# Altium integrated library TI Data Converters Digital to Analog Converter.IntLib: 1533 symbols (part 97 of 99)
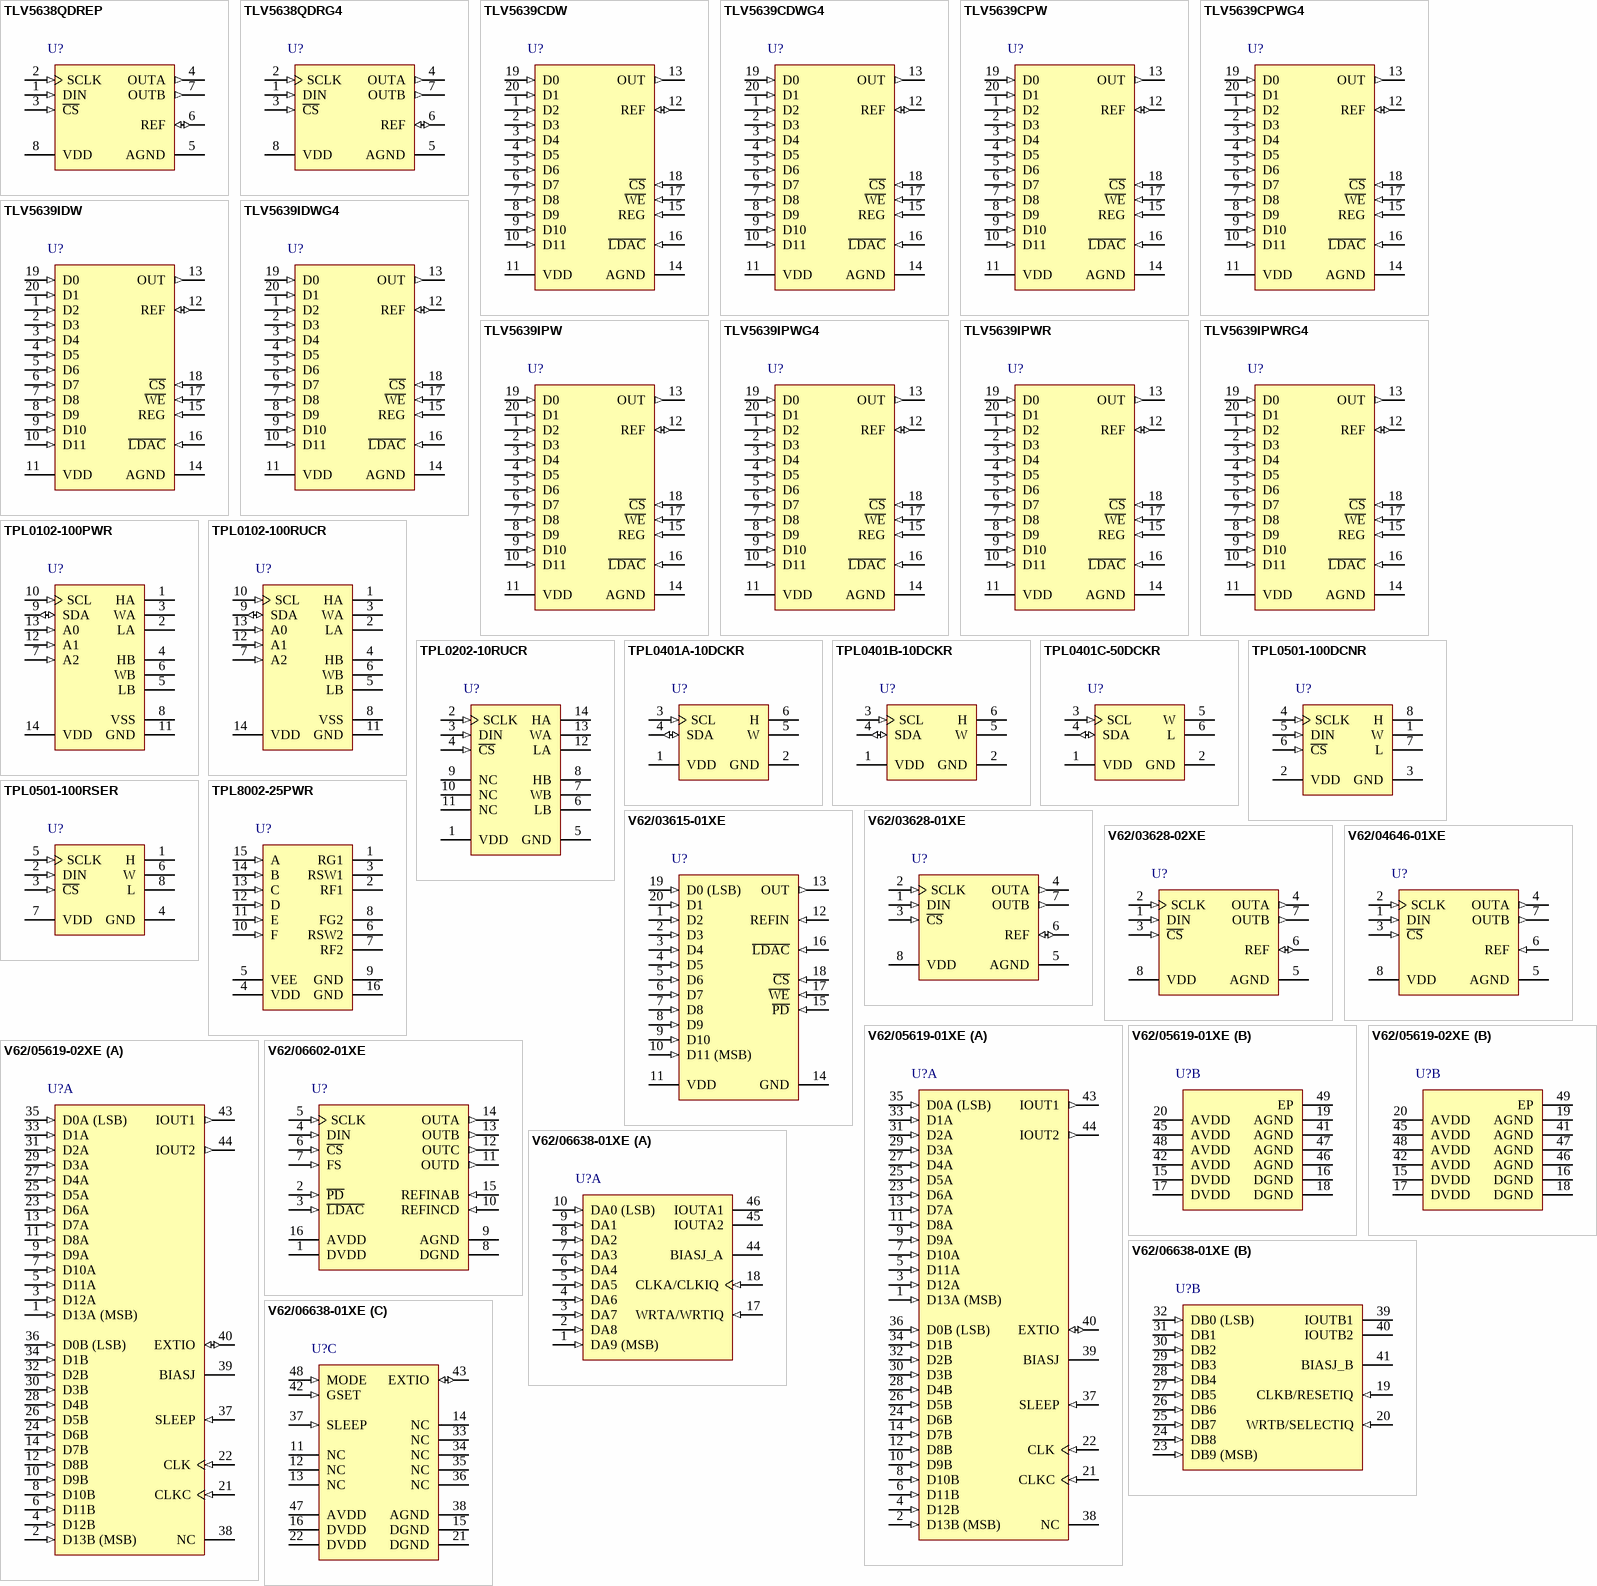
[diagram p169: symbols TLV5638QDREP to V62/06638-01XE]

## TPL0102-100RUCR
designator U?
256 Tap Dual Channel Digital Potentiometer with I2C Interface and Non-Volatile Memory, -40 to 85 degC, 14-pin QFN (RUC14), Green (RoHS & no Sb/Br); Manufacturer: Texas Instruments; PartNumber: TPL0102-100RUCR; DAC Channels: 2; DNL(Max)(+/-LSB): 0.25; INL(Max)(+/-LSB): 0.5; DatasheetVersion: SLIS134B; PackageVersion: 4208447/C, 08/2008; PackageReference: RUC14; PackageDescription: 14-Pin Plastic Quad Flatpack No-Lead, Body 2 x 2 mm, Pitch 0.4 mm; Supplier 1: Digi-Key; Supplier Part Number 1: 296-28379-2-ND; Supplier 2: Digi-Key; Supplier Part Number 2: 296-28379-1-ND; Supplier 3: Digi-Key; Supplier Part Number 3: 296-28379-6-ND; Supplier 4: Farnell; Supplier Part Number 4: 1895372; Supplier 5: Newark; Supplier Part Number 5: 47T5679; Supplier 6: Mouser; Supplier Part Number 6: 595-TPL0102-100RUCR; Eco-Plan: Green (RoHS & no Sb/Br); Interface: I2C; SubFamily: Digital Potentiometer; Mounting Technology: Surface Mount; Code_JEDEC: MO-288; ComponentLink1Description: Manufacturer URL; ComponentLink1URL: http://www.ti.com/; ComponentLink2Description: Datasheet; ComponentLink2URL: http://www.ti.com/general/docs/lit/getliterature.tsp?genericPartNumber=TPL0102-100&fileType=pdf; ComponentLink3Description: Package Specification; ComponentLink3URL: http://www.ti.com/lit/ml/mpqf212b/mpqf212b.pdf
footprint TI-RUC14_V (QFN, 14-Leads, Body 2x2mm, Pitch 0.4mm)
pins: 1 HA "High terminal of Potentiometer A", 2 LA "Low terminal of Potentiometer A", 3 WA "Wiper terminal of Potentiometer A", 4 HB "High terminal of Potentiometer B", 5 LB "Low terminal of Potentiometer B", 6 WB "Wiper terminal of Potentiometer B", 7 A2 (in) "Address Bit 2", 8 VSS (power) "Negative or GND Power Supply Pin", 9 SDA (io) "I2C Data I/O", 10 SCL (in) "I2C Clock Input", 11 GND (power) "Ground", 12 A1 (in) "Address Bit 1", 13 A0 (in) "Address Bit 0", 14 VDD (power) "Positive Power Supply Pin"

## TPL0202-10RUCR
designator U?
256 Tap, Dual Channel Digital Potentiometer with SPI Interface and Non-Volatile Memory, -40 to 85 degC, 14-pin QFN (RUC14); Manufacturer: Texas Instruments; PartNumber: TPL0202-10RUCR; DAC Channels: 2; DNL(Max)(+/-LSB): 0.5; INL(Max)(+/-LSB): 1; DatasheetVersion: SLIS135C; PackageVersion: 4208447/C, 08/2008; PackageReference: RUC14; PackageDescription: 14-Pin Plastic Quad Flatpack No-Lead, Body 2 x 2 mm, Pitch 0.4 mm; Supplier 1: Mouser; Supplier Part Number 1: N/A; Interface: SPI; SubFamily: Digital Potentiometer; Mounting Technology: Surface Mount; Code_JEDEC: MO-288; ComponentLink1Description: Manufacturer URL; ComponentLink1URL: http://www.ti.com/; ComponentLink2Description: Datasheet; ComponentLink2URL: http://www.ti.com/general/docs/lit/getliterature.tsp?genericPartNumber=TPL0202-10&fileType=pdf; ComponentLink3Description: Package Specification; ComponentLink3URL: http://www.ti.com/lit/ml/mpqf212b/mpqf212b.pdf
footprint TI-RUC14_V (QFN, 14-Leads, Body 2x2mm, Pitch 0.4mm)
pins: 1 VDD (power) "Supply Voltage", 2 SCLK (in) "SPI Clock", 3 DIN (in) "SPI Input", 4 ~{CS} (in) "SPI Chip Select (Active Low)", 5 GND (power) "Ground", 6 LB "Low terminal of Potentiometer B", 7 WB "Wiper terminal of Potentiometer B", 8 HB "High terminal of Potentiometer B", 9 NC "Not internally connected", 10 NC "Not internally connected", 11 NC "Not internally connected", 12 LA "Low terminal of Potentiometer A", 13 WA "Wiper terminal of Potentiometer A", 14 HA "High terminal of Potentiometer A"

## TPL0401A-10DCKR
designator U?
128 Tap Digital Potentiometer with I2C Interface, -40 to 125 degC, 6-pin SOT23 (DCK6), Green (RoHS & no Sb/Br); Manufacturer: Texas Instruments; PartNumber: TPL0401A-10DCKR; DNL(Max)(+/-LSB): 0.25; INL(Max)(+/-LSB): 0.5; Settling Time(us): 0.152; DatasheetVersion: SLIS144A; PackageVersion: 4093553-4/G, 01/2007; PackageReference: DCK6; PackageDescription: 6-Pin Plastic Small Outline, Body 2 x 1.25 mm, Pitch 0.65 mm; Supplier 1: Digi-Key; Supplier Part Number 1: 296-29676-2-ND; Supplier 2: Digi-Key; Supplier Part Number 2: 296-29676-1-ND; Supplier 3: Digi-Key; Supplier Part Number 3: 296-29676-6-ND; Supplier 4: Farnell; Supplier Part Number 4: 2064234; Supplier 5: Newark; Supplier Part Number 5: 71T7144; Supplier 6: Newark; Supplier Part Number 6: 64T4192; Supplier 7: Mouser; Supplier Part Number 7: 595-TPL0401A-10DCKR; Eco-Plan: Green (RoHS & no Sb/Br); Interface: I2C; SubFamily: Digital Potentiometer; Mounting Technology: Surface Mount; Code_JEDEC: MO-203; ComponentLink1Description: Manufacturer URL; ComponentLink1URL: http://www.ti.com/; ComponentLink2Description: Datasheet; ComponentLink2URL: http://www.ti.com/general/docs/lit/getliterature.tsp?genericPartNumber=TPL0401A-10&fileType=pdf; ComponentLink3Description: Package Specification; ComponentLink3URL: http://www.ti.com/litv/pdf/mpds114c
footprint TI-DCK6_V (SOT23, 6-Leads, Body 2x1.25mm, Pitch 0.65mm)
pins: 1 VDD (power) "Positive Supply Voltage", 2 GND (power) "Ground", 3 SCL (in) "I2C Clock", 4 SDA (io) "I2C Data", 5 W "Wiper terminal", 6 H "High terminal"

## TPL0401B-10DCKR
designator U?
128 Tap Digital Potentiometer with I2C Interface, -40 to 125 degC, 6-pin SOT23 (DCK6), Green (RoHS & no Sb/Br); Manufacturer: Texas Instruments; PartNumber: TPL0401B-10DCKR; DNL(Max)(+/-LSB): 0.25; INL(Max)(+/-LSB): 0.5; Settling Time(us): 0.152; DatasheetVersion: SLIS144A; PackageVersion: 4093553-4/G, 01/2007; PackageReference: DCK6; PackageDescription: 6-Pin Plastic Small Outline, Body 2 x 1.25 mm, Pitch 0.65 mm; Supplier 1: Digi-Key; Supplier Part Number 1: 296-29677-2-ND; Supplier 2: Digi-Key; Supplier Part Number 2: 296-29677-1-ND; Supplier 3: Digi-Key; Supplier Part Number 3: 296-29677-6-ND; Supplier 4: Farnell; Supplier Part Number 4: 2064235; Supplier 5: Newark; Supplier Part Number 5: 71T7145; Supplier 6: Mouser; Supplier Part Number 6: 595-TPL0401B-10DCKR; Eco-Plan: Green (RoHS & no Sb/Br); Interface: I2C; SubFamily: Digital Potentiometer; Mounting Technology: Surface Mount; Code_JEDEC: MO-203; ComponentLink1Description: Manufacturer URL; ComponentLink1URL: http://www.ti.com/; ComponentLink2Description: Datasheet; ComponentLink2URL: http://www.ti.com/general/docs/lit/getliterature.tsp?genericPartNumber=TPL0401B-10&fileType=pdf; ComponentLink3Description: Package Specification; ComponentLink3URL: http://www.ti.com/litv/pdf/mpds114c
footprint TI-DCK6_V (SOT23, 6-Leads, Body 2x1.25mm, Pitch 0.65mm)
pins: 1 VDD (power) "Positive Supply Voltage", 2 GND (power) "Ground", 3 SCL (in) "I2C Clock", 4 SDA (io) "I2C Data", 5 W "Wiper terminal", 6 H "High terminal"

## TPL0401C-50DCKR
designator U?
128 Tap Digital Potentiometer with I2C Interface, -40 to 125 degC, 6-pin SOT23 (DCK6); Manufacturer: Texas Instruments; PartNumber: TPL0401C-50DCKR; DNL(Max)(+/-LSB): 0.25; INL(Max)(+/-LSB): 0.5; Settling Time(us): 0.152; DatasheetVersion: SLIS144A; PackageVersion: 4093553-4/G, 01/2007; PackageReference: DCK6; PackageDescription: 6-Pin Plastic Small Outline, Body 2 x 1.25 mm, Pitch 0.65 mm; Supplier 1: Mouser; Supplier Part Number 1: N/A; Interface: I2C; SubFamily: Digital Potentiometer; Mounting Technology: Surface Mount; Code_JEDEC: MO-203; ComponentLink1Description: Manufacturer URL; ComponentLink1URL: http://www.ti.com/; ComponentLink2Description: Datasheet; ComponentLink2URL: http://www.ti.com/general/docs/lit/getliterature.tsp?genericPartNumber=TPL0401C-50&fileType=pdf; ComponentLink3Description: Package Specification; ComponentLink3URL: http://www.ti.com/litv/pdf/mpds114c
footprint TI-DCK6_V (SOT23, 6-Leads, Body 2x1.25mm, Pitch 0.65mm)
pins: 1 VDD (power) "Positive Supply Voltage", 2 GND (power) "Ground", 3 SCL (in) "I2C Clock", 4 SDA (io) "I2C Data", 5 W "Wiper terminal", 6 L "Low terminal"

## TPL0501-100DCNR
designator U?
256-Tap, 100 k, Single Channel Potentiometer with SPI Interface, -40 to 125 degC, 8-pin SOP (DCN8), Green (RoHS & no Sb/Br); Manufacturer: Texas Instruments; PartNumber: TPL0501-100DCNR; DAC Channels: 1; DNL(Max)(+/-LSB): 0.5; Settling Time(us): 3; SubFamily: Digital Potentiometer; DatasheetVersion: SLIS136A; PackageVersion: 4202106/D, 11/2009; PackageReference: DCN8; PackageDescription: 8-Pin Plastic Small Outline, Body 1.6 x 2.9 mm, Pitch 0.65 mm; Supplier 1: Digi-Key; Supplier Part Number 1: 296-29584-2-ND; Supplier 2: Digi-Key; Supplier Part Number 2: 296-29584-1-ND; Supplier 3: Digi-Key; Supplier Part Number 3: 296-29584-6-ND; Supplier 4: Farnell; Supplier Part Number 4: 2064238; Supplier 5: Newark; Supplier Part Number 5: 71T7146; Supplier 6: Newark; Supplier Part Number 6: 64T4195; Supplier 7: Mouser; Supplier Part Number 7: 595-TPL0501-100DCNR; Eco-Plan: Green (RoHS & no Sb/Br); INL(Max)(+/-LSB): 1; Interface: SPI; Mounting Technology: Surface Mount; Code_JEDEC: MO-178; ComponentLink1Description: Manufacturer URL; ComponentLink1URL: http://www.ti.com/; ComponentLink2Description: Datasheet; ComponentLink2URL: http://www.ti.com/general/docs/lit/getliterature.tsp?genericPartNumber=TPL0501-100&fileType=pdf; ComponentLink3Description: Package Specification; ComponentLink3URL: http://www.ti.com/lit/ml/mpds099c/mpds099c.pdf
footprint TI-DCN8_N (SOP, 8-Leads, Body 2.9x1.6mm, Pitch 0.65mm, IPC Medium Density)
footprint TI-DCN8_L (SOP, 8-Leads, Body 2.9x1.6mm, Pitch 0.65mm, IPC High Density)
footprint TI-DCN8_M (SOP, 8-Leads, Body 2.9x1.6mm, Pitch 0.65mm, IPC Low Density)
pins: 1 W "Wiper terminal", 2 VDD (power) "Positive Supply Voltage", 3 GND (power) "Ground", 4 SCLK (in) "SPI Clock", 5 DIN (in) "SPI Input", 6 ~{CS} (in) "SPI Chip Select. Active Low", 7 L "Low terminal", 8 H "High terminal"

## TPL0501-100RSER
designator U?
256-Tap, 100 k, Single Channel Potentiometer with SPI Interface, -40 to 125 degC, 8-pin QFN (RSE8), Green (RoHS & no Sb/Br); Manufacturer: Texas Instruments; PartNumber: TPL0501-100RSER; DAC Channels: 1; DNL(Max)(+/-LSB): 0.5; Settling Time(us): 3; SubFamily: Digital Potentiometer; DatasheetVersion: SLIS136A; PackageVersion: 4207268-2/D, 01/2011; PackageReference: RSE8; PackageDescription: 8-Pin Plastic Quad Flatpack No-Pin, 1.5 x 1.5 mm Body, 0.5 mm Pitch; Supplier 1: Digi-Key; Supplier Part Number 1: 296-29585-2-ND; Supplier 2: Digi-Key; Supplier Part Number 2: 296-29585-1-ND; Supplier 3: Digi-Key; Supplier Part Number 3: 296-29585-6-ND; Supplier 4: Farnell; Supplier Part Number 4: 2064237; Supplier 5: Newark; Supplier Part Number 5: 64T4196; Supplier 6: Mouser; Supplier Part Number 6: 595-TPL0501-100RSER; Eco-Plan: Green (RoHS & no Sb/Br); INL(Max)(+/-LSB): 1; Interface: SPI; Mounting Technology: Surface Mount; Code_JEDEC: MO-288; ComponentLink1Description: Manufacturer URL; ComponentLink1URL: http://www.ti.com/; ComponentLink2Description: Datasheet; ComponentLink2URL: http://www.ti.com/general/docs/lit/getliterature.tsp?genericPartNumber=TPL0501-100&fileType=pdf; ComponentLink3Description: Package Specification; ComponentLink3URL: http://www.ti.com/litv/pdf/mpqf207b
footprint TI-RSE8_V (QFN, 8-Leads, Body 1.5x1.5mm, Pitch 0.5mm)
pins: 1 H "High terminal", 2 DIN (in) "SPI Input", 3 ~{CS} (in) "SPI Chip Select. Active Low", 4 GND (power) "Ground", 5 SCLK (in) "SPI Clock", 6 W "Wiper terminal", 7 VDD (power) "Positive Supply Voltage", 8 L "Low terminal"

## TPL8002-25PWR
designator U?
64-Tap Digital Potentiometer, -40 to 85 degC, 16-pin SOP (PW16), Green (RoHS & no Sb/Br); Manufacturer: Texas Instruments; PartNumber: TPL8002-25PWR; DNL(Max)(+/-LSB): 0.3; Interface: Parallel; DatasheetVersion: SLIS133; PackageVersion: 4040064-4/G, 02/2011; PackageReference: PW16; PackageDescription: 16-Pin Plastic Small Outline, Body 5 x 4.4 mm, Pitch 0.65 mm; Supplier 1: Digi-Key; Supplier Part Number 1: 296-25791-2-ND; Supplier 2: Digi-Key; Supplier Part Number 2: 296-25791-1-ND; Supplier 3: Digi-Key; Supplier Part Number 3: 296-25791-6-ND; Supplier 4: Newark; Supplier Part Number 4: 69R0437; Supplier 5: Mouser; Supplier Part Number 5: 595-TPL8002-25PWR; Eco-Plan: Green (RoHS & no Sb/Br); INL(Max)(+/-LSB): 0.3; SubFamily: Digital Potentiometer; Mounting Technology: Surface Mount; Code_JEDEC: MO-153; ComponentLink1Description: Manufacturer URL; ComponentLink1URL: http://www.ti.com/; ComponentLink2Description: Datasheet; ComponentLink2URL: http://www.ti.com/general/docs/lit/getliterature.tsp?genericPartNumber=TPL8002-25&fileType=pdf; ComponentLink3Description: Package Specification; ComponentLink3URL: http://www.ti.com/lit/ml/mpds361/mpds361.pdf
footprint TI-PW16_N (SOP, 16-Leads, Body 5x4.4mm, Pitch 0.65mm, IPC Medium Density)
footprint TI-PW16_L (SOP, 16-Leads, Body 5x4.4mm, Pitch 0.65mm, IPC High Density)
footprint TI-PW16_M (SOP, 16-Leads, Body 5x4.4mm, Pitch 0.65mm, IPC Low Density)
pins: 1 RG1, 2 RF1, 3 RSW1, 4 VDD (power), 5 VEE (power), 6 RSW2, 7 RF2, 8 FG2, 9 GND (power), 10 F (in), 11 E (in), 12 D (in), 13 C (in), 14 B (in), 15 A (in), 16 GND (power)

## V62/03615-01XE
designator U?
Enhanced Product 12-Bit, Single Channel DAC, Parallel, Voltage Out, Low Power, -40 to 125 degC, 20-pin SOIC (DW20), Green (RoHS & no Sb/Br); Manufacturer: Texas Instruments; PartNumber: V62/03615-01XE; DAC Channels: 1; INL(Max)(+/-LSB): 4; Power Consumption(Typ)(mW): 4.3; Resolution(Bits): 12; SFDR(dB): 72; SNR(dB): 78; SubFamily: Precision DAC (=<10MSPS); DatasheetVersion: SGLS124A; PackageVersion: 4040000-4/G, 01/2011; PackageReference: DW20; PackageDescription: 20-Pin Plastic Small Outline, Body 12.8 x 7.5 mm, Pitch 1.27 mm; Supplier 1: Newark; Supplier Part Number 1: 46M1416; Supplier 2: Mouser; Supplier Part Number 2: 595-V62/03615-01XE; DNL(Max)(+/-LSB): 1; Eco-Plan: Green (RoHS & no Sb/Br); Interface: Parallel; Settling Time(us): 1; Mounting Technology: Surface Mount; Code_JEDEC: MO-013; ComponentLink1Description: Manufacturer URL; ComponentLink1URL: http://www.ti.com/; ComponentLink2Description: Datasheet; ComponentLink2URL: http://www.ti.com/general/docs/lit/getliterature.tsp?genericPartNumber=TLV5619-EP&fileType=pdf; ComponentLink3Description: Package Specification; ComponentLink3URL: http://www.ti.com/lit/ml/mpds173a/mpds173a.pdf
footprint TI-DW20_N (SOIC, 20-Leads, Body 12.8x7.5mm, Pitch 1.27mm, IPC Medium Density)
footprint TI-DW20_L (SOIC, 20-Leads, Body 12.8x7.5mm, Pitch 1.27mm, IPC High Density)
footprint TI-DW20_M (SOIC, 20-Leads, Body 12.8x7.5mm, Pitch 1.27mm, IPC Low Density)
pins: 1 D2 (in) "Parallel data input", 2 D3 (in) "Parallel data input", 3 D4 (in) "Parallel data input", 4 D5 (in) "Parallel data input", 5 D6 (in) "Parallel data input", 6 D7 (in) "Parallel data input", 7 D8 (in) "Parallel data input", 8 D9 (in) "Parallel data input", 9 D10 (in) "Parallel data input", 10 D11 (MSB) (in) "Parallel data input", 11 VDD (power) "Positive power supply", 12 REFIN (in) "Voltage reference input", 13 OUT (out) "Analog output", 14 GND (power) "Ground", 15 ~{PD} (in) "When low, disables all buffer amplifier voltages to reduce supply current", 16 ~{LDAC} (in) "Load DAC", 17 ~{WE} (in) "Write enable", 18 ~{CS} (in) "Chip select", 19 D0 (LSB) (in) "Parallel data input", 20 D1 (in) "Parallel data input"

## V62/03628-01XE
designator U?
Enhanced Product 12-Bit, 1 us Serial Input Dual DAC, Programmable Internal Reference, Settling Time, -55 to 125 degC, 8-pin SOIC (D8), Green (RoHS & no Sb/Br); Manufacturer: Texas Instruments; PartNumber: V62/03628-01XE; DAC Channels: 2; DNL(Max)(+/-LSB): 1; INL(Max)(+/-LSB): 6; Interface: Serial SPI; Power Consumption(Typ)(mW): 4.5; Resolution(Bits): 12; SFDR(dB): 72; SNR(dB): 74; SubFamily: Precision DAC (=<10MSPS); DatasheetVersion: SGLS130B; PackageVersion: 4040047-3/M, 06/2011; PackageReference: D8; PackageDescription: 8-Pin Plastic Small Outline, Body 4.9 x 3.9 mm, Pitch 1.27 mm; Supplier 1: Newark; Supplier Part Number 1: 46M1443; Supplier 2: Mouser; Supplier Part Number 2: 595-V62/03628-01XE; Eco-Plan: Green (RoHS & no Sb/Br); Settling Time(us): 1; Mounting Technology: Surface Mount; Code_JEDEC: MS-012; ComponentLink1Description: Manufacturer URL; ComponentLink1URL: http://www.ti.com/; ComponentLink2Description: Datasheet; ComponentLink2URL: http://www.ti.com/general/docs/lit/getliterature.tsp?genericPartNumber=TLV5638-EP&fileType=pdf; ComponentLink3Description: Package Specification; ComponentLink3URL: http://www.ti.com/litv/pdf/msoi002j
footprint TI-D8_N (SOIC, 8-Leads, Body 4.9x3.9mm, Pitch 1.27mm, IPC Medium Density)
footprint TI-D8_L (SOIC, 8-Leads, Body 4.9x3.9mm, Pitch 1.27mm, IPC High Density)
footprint TI-D8_M (SOIC, 8-Leads, Body 4.9x3.9mm, Pitch 1.27mm, IPC Low Density)
pins: 1 DIN (in) "Digital serial data input", 2 SCLK (in) "Digital serial clock input", 3 ~{CS} (in) "Chip select. Digital input active low, used to enable/disable inputs", 4 OUTA (out) "DAC A analog voltage output", 5 AGND (power) "Ground", 6 REF (io) "Analog reference voltage input/output", 7 OUTB (out) "DAC B analog voltage output", 8 VDD (power) "Positive power supply"

## V62/03628-02XE
designator U?
Enhanced Product 12-Bit, 1 us Serial Input Dual DAC, Programmable Internal Reference, Settling Time, -55 to 125 degC, 8-pin SOIC (D8), Green (RoHS & no Sb/Br); Manufacturer: Texas Instruments; PartNumber: V62/03628-02XE; DAC Channels: 2; DNL(Max)(+/-LSB): 1; INL(Max)(+/-LSB): 6; Interface: Serial SPI; Power Consumption(Typ)(mW): 4.5; Resolution(Bits): 12; SFDR(dB): 72; SNR(dB): 74; SubFamily: Precision DAC (=<10MSPS); DatasheetVersion: SGLS130B; PackageVersion: 4040047-3/M, 06/2011; PackageReference: D8; PackageDescription: 8-Pin Plastic Small Outline, Body 4.9 x 3.9 mm, Pitch 1.27 mm; Supplier 1: Newark; Supplier Part Number 1: 46M1444; Supplier 2: Mouser; Supplier Part Number 2: 595-V62/03628-02XE; Eco-Plan: Green (RoHS & no Sb/Br); Settling Time(us): 1; Mounting Technology: Surface Mount; Code_JEDEC: MS-012; ComponentLink1Description: Manufacturer URL; ComponentLink1URL: http://www.ti.com/; ComponentLink2Description: Datasheet; ComponentLink2URL: http://www.ti.com/general/docs/lit/getliterature.tsp?genericPartNumber=TLV5638-EP&fileType=pdf; ComponentLink3Description: Package Specification; ComponentLink3URL: http://www.ti.com/litv/pdf/msoi002j
footprint TI-D8_N (SOIC, 8-Leads, Body 4.9x3.9mm, Pitch 1.27mm, IPC Medium Density)
footprint TI-D8_L (SOIC, 8-Leads, Body 4.9x3.9mm, Pitch 1.27mm, IPC High Density)
footprint TI-D8_M (SOIC, 8-Leads, Body 4.9x3.9mm, Pitch 1.27mm, IPC Low Density)
pins: 1 DIN (in) "Digital serial data input", 2 SCLK (in) "Digital serial clock input", 3 ~{CS} (in) "Chip select. Digital input active low, used to enable/disable inputs", 4 OUTA (out) "DAC A analog voltage output", 5 AGND (power) "Ground", 6 REF (io) "Analog reference voltage input/output", 7 OUTB (out) "DAC B analog voltage output", 8 VDD (power) "Positive power supply"

## V62/04646-01XE
designator U?
Enhanced Product DAC with Power Down, -55 to 125 degC, 8-pin SOIC (D8), Green (RoHS & no Sb/Br); Manufacturer: Texas Instruments; PartNumber: V62/04646-01XE; DAC Channels: 2; DNL(Max)(+/-LSB): 1; INL(Max)(+/-LSB): 4; Interface: Serial SPI; Resolution(Bits): 12; Settling Time(us): 3; SFDR(dB): 72; SNR(dB): 76; SubFamily: Precision DAC (=<10MSPS); DatasheetVersion: SGLS214; PackageVersion: 4040047-3/M, 06/2011; PackageReference: D8; PackageDescription: 8-Pin Plastic Small Outline, Body 4.9 x 3.9 mm, Pitch 1.27 mm; Supplier 1: Newark; Supplier Part Number 1: 46M1596; Supplier 2: Mouser; Supplier Part Number 2: 595-V62/04646-01XE; Eco-Plan: Green (RoHS & no Sb/Br); Mounting Technology: Surface Mount; Code_JEDEC: MS-012; ComponentLink1Description: Manufacturer URL; ComponentLink1URL: http://www.ti.com/; ComponentLink2Description: Datasheet; ComponentLink2URL: http://www.ti.com/general/docs/lit/getliterature.tsp?genericPartNumber=TLV5618A-EP&fileType=pdf; ComponentLink3Description: Package Specification; ComponentLink3URL: http://www.ti.com/litv/pdf/msoi002j
footprint TI-D8_N (SOIC, 8-Leads, Body 4.9x3.9mm, Pitch 1.27mm, IPC Medium Density)
footprint TI-D8_L (SOIC, 8-Leads, Body 4.9x3.9mm, Pitch 1.27mm, IPC High Density)
footprint TI-D8_M (SOIC, 8-Leads, Body 4.9x3.9mm, Pitch 1.27mm, IPC Low Density)
pins: 1 DIN (in) "Digital serial data input", 2 SCLK (in) "Digital serial clock input", 3 ~{CS} (in) "Chip select. Digital input active low, used to enable/disable inputs.", 4 OUTA (out) "DAC A analog voltage output", 5 AGND (power) "Ground", 6 REF (in) "Analog reference voltage input", 7 OUTB (out) "DAC B analog voltage output", 8 VDD (power) "Positive power supply"

## V62/05619-01XE
designator U?
Enhanced Product 14-Bit 400-MSPS DAC, -55 to 125 degC, 48-pin QFP (PHP48), Green (RoHS & no Sb/Br); Manufacturer: Texas Instruments; PartNumber: V62/05619-01XE; DAC Channels: 1; DNL(Max)(+/-LSB): 2.2; INL(Max)(+/-LSB): 4.6; Interface: Parallel LVDS; Power Consumption(Typ)(mW): 660; Resolution(Bits): 14; Settling Time(us): 0.012; SFDR(dB): 73; SubFamily: High Speed DAC (>10MSPS); DatasheetVersion: SGLS381A; PackageVersion: 4146927/B, 08/2003; PackageReference: PHP48-3600X3600TP; PackageDescription: 48-Pin PowerPAD(TM) Plastic Quad Flatpack, Body 7 x 7 mm, Pitch 0.5 mm; Supplier 1: Mouser; Supplier Part Number 1: 595-V62/05619-01XE; Eco-Plan: Green (RoHS & no Sb/Br); Mounting Technology: Surface Mount; Code_JEDEC: MS-026; ComponentLink1Description: Manufacturer URL; ComponentLink1URL: http://www.ti.com/; ComponentLink2Description: Datasheet; ComponentLink2URL: http://www.ti.com/general/docs/lit/getliterature.tsp?genericPartNumber=DAC5675-EP&fileType=pdf; ComponentLink3Description: Package Specification; ComponentLink3URL: http://www.ti.com/litv/pdf/mpqf051a
footprint TI-PHP48-3600X3600TP_N (QFP, 48-Leads, Body 7x7mm, Pitch 0.5mm, Thermal Pad 4.1x4.1mm, IPC Medium Density)
footprint TI-PHP48-3600X3600TP_L (QFP, 48-Leads, Body 7x7mm, Pitch 0.5mm, Thermal Pad 4.1x4.1mm, IPC High Density)
footprint TI-PHP48-3600X3600TP_M (QFP, 48-Leads, Body 7x7mm, Pitch 0.5mm, Thermal Pad 4.1x4.1mm, IPC Low Density)
part A pins: 1 D13A (MSB) (in) "LVDS positive input, data bits 0 through 13.D13A is most significant data bit (MSB).", 2 D13B (MSB) (in) "LVDS negative input, data bits 0 through 13.D13B is most significant data bit (MSB).", 3 D12A (in) "LVDS positive input, data bits 0 through 13.", 4 D12B (in) "LVDS negative input, data bits 0 through 13.", 5 D11A (in) "LVDS positive input, data bits 0 through 13.", 6 D11B (in) "LVDS negative input, data bits 0 through 13.", 7 D10A (in) "LVDS positive input, data bits 0 through 13.", 8 D10B (in) "LVDS negative input, data bits 0 through 13.", 9 D9A (in) "LVDS positive input, data bits 0 through 13.", 10 D9B (in) "LVDS negative input, data bits 0 through 13.", 11 D8A (in) "LVDS positive input, data bits 0 through 13.", 12 D8B (in) "LVDS negative input, data bits 0 through 13.", 13 D7A (in) "LVDS positive input, data bits 0 through 13.", 14 D7B (in) "LVDS negative input, data bits 0 through 13.", 21 CLKC (in) "Complementary external clock input.", 22 CLK (in) "External clock input.", 23 D6A (in) "LVDS positive input, data bits 0 through 13.", 24 D6B (in) "LVDS negative input, data bits 0 through 13.", 25 D5A (in) "LVDS positive input, data bits 0 through 13.", 26 D5B (in) "LVDS negative input, data bits 0 through 13.", 27 D4A (in) "LVDS positive input, data bits 0 through 13.", 28 D4B (in) "LVDS negative input, data bits 0 through 13.", 29 D3A (in) "LVDS positive input, data bits 0 through 13.", 30 D3B (in) "LVDS negative input, data bits 0 through 13.", 31 D2A (in) "LVDS positive input, data bits 0 through 13.", 32 D2B (in) "LVDS negative input, data bits 0 through 13.", 33 D1A (in) "LVDS positive input, data bits 0 through 13.", 34 D1B (in) "LVDS negative input, data bits 0 through 13.", 35 D0A (LSB) (in) "LVDS positive input, data bits 0 through 13.D0A is least significant data bit (LSB).", 36 D0B (LSB) (in) "LVDS negative input, data bits 0 through 13.D0B is least significant data bit (LSB).", 37 SLEEP (in) "Asynchronous hardware power down input. Active high. Internal pulldown.", 38 NC "Not connected in chip. Can be high or low.", 39 BIASJ "Full-scale output current bias", 40 EXTIO (io) "Internal reference output or external reference input. Requires a 0.1uF decoupling capacitor to AGND when used as reference output.", 43 IOUT1 (out) "DAC current output. Full-scale when all input bits are set to '0'. Connect reference side of DAC load resistors to AVDD.", 44 IOUT2 (out) "DAC complementary current output. Full-scale when all input bits are set to '1'. Connect reference side of DAC load resistors to AVDD."
part B pins: 15 DVDD (power) "Digital positive supply voltage.", 16 DGND (power) "Digital negative supply voltage (ground)", 17 DVDD (power) "Digital positive supply voltage.", 18 DGND (power) "Digital negative supply voltage (ground)", 19 AGND (power) "Analog negative supply voltage (ground); pin 47 internally connected to PowerPAD.", 20 AVDD (power) "Analog positive supply voltage.", 41 AGND (power) "Analog negative supply voltage (ground); pin 47 internally connected to PowerPAD.", 42 AVDD (power) "Analog positive supply voltage.", 45 AVDD (power) "Analog positive supply voltage.", 46 AGND (power) "Analog negative supply voltage (ground); pin 47 internally connected to PowerPAD.", 47 AGND (power) "Analog negative supply voltage (ground); pin 47 internally connected to PowerPAD.", 48 AVDD (power) "Analog positive supply voltage.", 49 EP (power)

## V62/05619-02XE
designator U?
Enhanced Product 14-Bit 400-MSPS DAC, -55 to 125 degC, 48-pin QFP (PHP48), Green (RoHS & no Sb/Br); Manufacturer: Texas Instruments; PartNumber: V62/05619-02XE; DAC Channels: 1; DNL(Max)(+/-LSB): 2.2; INL(Max)(+/-LSB): 4.6; Interface: Parallel LVDS; Power Consumption(Typ)(mW): 660; Resolution(Bits): 14; Settling Time(us): 0.012; SFDR(dB): 73; SubFamily: High Speed DAC (>10MSPS); DatasheetVersion: SGLS381A; PackageVersion: 4146927/B, 08/2003; PackageReference: PHP48-3600X3600TP; PackageDescription: 48-Pin PowerPAD(TM) Plastic Quad Flatpack, Body 7 x 7 mm, Pitch 0.5 mm; Supplier 1: Mouser; Supplier Part Number 1: 595-V62/05619-02XE; Eco-Plan: Green (RoHS & no Sb/Br); Mounting Technology: Surface Mount; Code_JEDEC: MS-026; ComponentLink1Description: Manufacturer URL; ComponentLink1URL: http://www.ti.com/; ComponentLink2Description: Datasheet; ComponentLink2URL: http://www.ti.com/general/docs/lit/getliterature.tsp?genericPartNumber=DAC5675-EP&fileType=pdf; ComponentLink3Description: Package Specification; ComponentLink3URL: http://www.ti.com/litv/pdf/mpqf051a
footprint TI-PHP48-3600X3600TP_N (QFP, 48-Leads, Body 7x7mm, Pitch 0.5mm, Thermal Pad 4.1x4.1mm, IPC Medium Density)
footprint TI-PHP48-3600X3600TP_L (QFP, 48-Leads, Body 7x7mm, Pitch 0.5mm, Thermal Pad 4.1x4.1mm, IPC High Density)
footprint TI-PHP48-3600X3600TP_M (QFP, 48-Leads, Body 7x7mm, Pitch 0.5mm, Thermal Pad 4.1x4.1mm, IPC Low Density)
part A pins: 1 D13A (MSB) (in) "LVDS positive input, data bits 0 through 13.D13A is most significant data bit (MSB).", 2 D13B (MSB) (in) "LVDS negative input, data bits 0 through 13.D13B is most significant data bit (MSB).", 3 D12A (in) "LVDS positive input, data bits 0 through 13.", 4 D12B (in) "LVDS negative input, data bits 0 through 13.", 5 D11A (in) "LVDS positive input, data bits 0 through 13.", 6 D11B (in) "LVDS negative input, data bits 0 through 13.", 7 D10A (in) "LVDS positive input, data bits 0 through 13.", 8 D10B (in) "LVDS negative input, data bits 0 through 13.", 9 D9A (in) "LVDS positive input, data bits 0 through 13.", 10 D9B (in) "LVDS negative input, data bits 0 through 13.", 11 D8A (in) "LVDS positive input, data bits 0 through 13.", 12 D8B (in) "LVDS negative input, data bits 0 through 13.", 13 D7A (in) "LVDS positive input, data bits 0 through 13.", 14 D7B (in) "LVDS negative input, data bits 0 through 13.", 21 CLKC (in) "Complementary external clock input.", 22 CLK (in) "External clock input.", 23 D6A (in) "LVDS positive input, data bits 0 through 13.", 24 D6B (in) "LVDS negative input, data bits 0 through 13.", 25 D5A (in) "LVDS positive input, data bits 0 through 13.", 26 D5B (in) "LVDS negative input, data bits 0 through 13.", 27 D4A (in) "LVDS positive input, data bits 0 through 13.", 28 D4B (in) "LVDS negative input, data bits 0 through 13.", 29 D3A (in) "LVDS positive input, data bits 0 through 13.", 30 D3B (in) "LVDS negative input, data bits 0 through 13.", 31 D2A (in) "LVDS positive input, data bits 0 through 13.", 32 D2B (in) "LVDS negative input, data bits 0 through 13.", 33 D1A (in) "LVDS positive input, data bits 0 through 13.", 34 D1B (in) "LVDS negative input, data bits 0 through 13.", 35 D0A (LSB) (in) "LVDS positive input, data bits 0 through 13.D0A is least significant data bit (LSB).", 36 D0B (LSB) (in) "LVDS negative input, data bits 0 through 13.D0B is least significant data bit (LSB).", 37 SLEEP (in) "Asynchronous hardware power down input. Active high. Internal pulldown.", 38 NC "Not connected in chip. Can be high or low.", 39 BIASJ "Full-scale output current bias", 40 EXTIO (io) "Internal reference output or external reference input. Requires a 0.1uF decoupling capacitor to AGND when used as reference output.", 43 IOUT1 (out) "DAC current output. Full-scale when all input bits are set to '0'. Connect reference side of DAC load resistors to AVDD.", 44 IOUT2 (out) "DAC complementary current output. Full-scale when all input bits are set to '1'. Connect reference side of DAC load resistors to AVDD."
part B pins: 15 DVDD (power) "Digital positive supply voltage.", 16 DGND (power) "Digital negative supply voltage (ground)", 17 DVDD (power) "Digital positive supply voltage.", 18 DGND (power) "Digital negative supply voltage (ground)", 19 AGND (power) "Analog negative supply voltage (ground); pin 47 internally connected to PowerPAD.", 20 AVDD (power) "Analog positive supply voltage.", 41 AGND (power) "Analog negative supply voltage (ground); pin 47 internally connected to PowerPAD.", 42 AVDD (power) "Analog positive supply voltage.", 45 AVDD (power) "Analog positive supply voltage.", 46 AGND (power) "Analog negative supply voltage (ground); pin 47 internally connected to PowerPAD.", 47 AGND (power) "Analog negative supply voltage (ground); pin 47 internally connected to PowerPAD.", 48 AVDD (power) "Analog positive supply voltage.", 49 EP (power)

## V62/06602-01XE
designator U?
Enhanced Product Quad DAC, Serial Input, Programmable Settling Time, Low-Power, Hardware or Software Power Down, -55 to 125 degC, 16-pin SOP (PW16), Green (RoHS & no Sb/Br); Manufacturer: Texas Instruments; PartNumber: V62/06602-01XE; DAC Channels: 4; DNL(Max)(+/-LSB): 1; Interface: Serial SPI; Power Consumption(Typ)(mW): 3.6; Resolution(Bits): 12; Settling Time(us): 3; SFDR(dB): 70; SNR(dB): 74; SubFamily: Precision DAC (=<10MSPS); DatasheetVersion: SGLS355; PackageVersion: 4040064-4/G, 02/2011; PackageReference: PW16; PackageDescription: 16-Pin Plastic Small Outline, Body 5 x 4.4 mm, Pitch 0.65 mm; Supplier 1: Newark; Supplier Part Number 1: 46M1793; Supplier 2: Mouser; Supplier Part Number 2: 595-V62/06602-01XE; Eco-Plan: Green (RoHS & no Sb/Br); INL(Max)(+/-LSB): 4; Mounting Technology: Surface Mount; Code_JEDEC: MO-153; ComponentLink1Description: Manufacturer URL; ComponentLink1URL: http://www.ti.com/; ComponentLink2Description: Datasheet; ComponentLink2URL: http://www.ti.com/general/docs/lit/getliterature.tsp?genericPartNumber=TLV5614-EP&fileType=pdf; ComponentLink3Description: Package Specification; ComponentLink3URL: http://www.ti.com/lit/ml/mpds361/mpds361.pdf
footprint TI-PW16_N (SOP, 16-Leads, Body 5x4.4mm, Pitch 0.65mm, IPC Medium Density)
footprint TI-PW16_L (SOP, 16-Leads, Body 5x4.4mm, Pitch 0.65mm, IPC High Density)
footprint TI-PW16_M (SOP, 16-Leads, Body 5x4.4mm, Pitch 0.65mm, IPC Low Density)
pins: 1 DVDD (power) "Digital supply", 2 ~{PD} (in) "Power-down pin. Powers down all DACs (overriding the individual power down settings), and all output stages. This terminal is active low.", 3 ~{LDAC} (in) "Load DAC. When the L\D\A\C\ signal is high, no DAC output updates occur when the input digital data is read into the serial interface. The DAC outputs are only updated when L\D\A\C\ is low.", 4 DIN (in) "Serial data input", 5 SCLK (in) "Serial clock inputinput", 6 ~{CS} (in) "Chip select. This terminal is active low.", 7 FS (in) "Frame sync input. The falling edge of the frame sync pulse indicates the start of a serial data frame shifted out to the TLV5614", 8 DGND (power) "Digital ground", 9 AGND (power) "Analog ground", 10 REFINCD (in) "Voltage reference input for DACs C and D.", 11 OUTD (out) "DACD output", 12 OUTC (out) "DACC output", 13 OUTB (out) "DACB output", 14 OUTA (out) "DACA output", 15 REFINAB (in) "Voltage reference input for DACs A and B.", 16 AVDD (power) "Analog supply"

## V62/06638-01XE
designator U?
Enhanced Product 10-Bit 275 MSPS Dual Digital to Analog Converter, -55 to 125 degC, 48-pin QFP (PFB48), Green (RoHS & no Sb/Br); Manufacturer: Texas Instruments; PartNumber: V62/06638-01XE; DAC Channels: 2; DNL(Max)(+/-LSB): 0.5; INL(Max)(+/-LSB): 1; Interface: Parallel CMOS; Power Consumption(Typ)(mW): 290; Resolution(Bits): 10; Settling Time(us): 0.02; SFDR(dB): 80; SNR(dB): 63; SubFamily: High Speed DAC (>10MSPS); DatasheetVersion: SGLS341C; PackageVersion: 4073176/B, 10/1996; PackageReference: PFB48; PackageDescription: 48-Pin Plastic Flat Pack, Body 7 x 7 mm, Pitch 0.5 mm; Supplier 1: Mouser; Supplier Part Number 1: 595-V62/06638-01XE; Eco-Plan: Green (RoHS & no Sb/Br); Mounting Technology: Surface Mount; Code_JEDEC: MS-026; ComponentLink1Description: Manufacturer URL; ComponentLink1URL: http://www.ti.com/; ComponentLink2Description: Datasheet; ComponentLink2URL: http://www.ti.com/general/docs/lit/getliterature.tsp?genericPartNumber=DAC5652-EP&fileType=pdf; ComponentLink3Description: Package Specification; ComponentLink3URL: http://www.ti.com/lit/ml/mtqf019a/mtqf019a.pdf
footprint TI-PFB48_N (QFP, 48-Leads, Body 7x7mm, Pitch 0.5mm, IPC Medium Density)
footprint TI-PFB48_L (QFP, 48-Leads, Body 7x7mm, Pitch 0.5mm, IPC High Density)
footprint TI-PFB48_M (QFP, 48-Leads, Body 7x7mm, Pitch 0.5mm, IPC Low Density)
part A pins: 1 DA9 (MSB) (in) "Data port A. DA9 is MSB and DA0 is LSB. Internal pulldown.", 2 DA8 (in) "Data port A. DA9 is MSB and DA0 is LSB. Internal pulldown.", 3 DA7 (in) "Data port A. DA9 is MSB and DA0 is LSB. Internal pulldown.", 4 DA6 (in) "Data port A. DA9 is MSB and DA0 is LSB. Internal pulldown.", 5 DA5 (in) "Data port A. DA9 is MSB and DA0 is LSB. Internal pulldown.", 6 DA4 (in) "Data port A. DA9 is MSB and DA0 is LSB. Internal pulldown.", 7 DA3 (in) "Data port A. DA9 is MSB and DA0 is LSB. Internal pulldown.", 8 DA2 (in) "Data port A. DA9 is MSB and DA0 is LSB. Internal pulldown.", 9 DA1 (in) "Data port A. DA9 is MSB and DA0 is LSB. Internal pulldown.", 10 DA0 (LSB) (in) "Data port A. DA9 is MSB and DA0 is LSB. Internal pulldown.", 17 WRTA/WRTIQ (in) "Input write signal for PORT A (WRTIQ in interleaving mode)", 18 CLKA/CLKIQ (in) "Clock input for DACA, CLKIQ in interleaved mode", 44 BIASJ_A "Full-scale output current bias for DACA", 45 IOUTA2 (hiz) "DACA complementary current output. Full-scale with all bits of DA low.", 46 IOUTA1 (hiz) "DACA current output. Full-scale with all bits of DA high."
part B pins: 19 CLKB/RESETIQ (in) "Clock input for DACB, RESETIQ in interleaved mode", 20 WRTB/SELECTIQ (in) "Input write signal for PORT B (SELECTIQ in interleaving mode)", 23 DB9 (MSB) (in) "Data port B. DB9 is MSB and DB0 is LSB. Internal pulldown.", 24 DB8 (in) "Data port B. DB9 is MSB and DB0 is LSB. Internal pulldown.", 25 DB7 (in) "Data port B. DB9 is MSB and DB0 is LSB. Internal pulldown.", 26 DB6 (in) "Data port B. DB9 is MSB and DB0 is LSB. Internal pulldown.", 27 DB5 (in) "Data port B. DB9 is MSB and DB0 is LSB. Internal pulldown.", 28 DB4 (in) "Data port B. DB9 is MSB and DB0 is LSB. Internal pulldown.", 29 DB3 (in) "Data port B. DB9 is MSB and DB0 is LSB. Internal pulldown.", 30 DB2 (in) "Data port B. DB9 is MSB and DB0 is LSB. Internal pulldown.", 31 DB1 (in) "Data port B. DB9 is MSB and DB0 is LSB. Internal pulldown.", 32 DB0 (LSB) (in) "Data port B. DB9 is MSB and DB0 is LSB. Internal pulldown.", 39 IOUTB1 (hiz) "DACB current output. Full-scale with all bits of DB high.", 40 IOUTB2 (hiz) "DACB complementary current output. Full-scale with all bits of DB low.", 41 BIASJ_B "Full-scale output current bias for DACB"
part C pins: 11 NC "Factory use only. Pins must be connected to DGND or left unconnected.", 12 NC "Factory use only. Pins must be connected to DGND or left unconnected.", 13 NC "Factory use only. Pins must be connected to DGND or left unconnected.", 14 NC "Factory use only. Pins must be connected to DGND or left unconnected.", 15 DGND (power) "Digital ground", 16 DVDD (power) "Digital supply voltage", 21 DGND (power) "Digital ground", 22 DVDD (power) "Digital supply voltage", 33 NC "Factory use only. Pins must be connected to DGND or left unconnected.", 34 NC "Factory use only. Pins must be connected to DGND or left unconnected.", 35 NC "Factory use only. Pins must be connected to DGND or left unconnected.", 36 NC "Factory use only. Pins must be connected to DGND or left unconnected.", 37 SLEEP (in) "Sleep function control input: H - DAC in power-down mode, L - DAC in operating mode. Internal pulldown.", 38 AGND (power) "Analog ground", 42 GSET (in) "Gain-setting mode: H - 1 resistor, L - 2 resistors. Internal pullup.", 43 EXTIO (io) "Internal reference output (bypass with 0.1 uF to AGND) or external reference input", 47 AVDD (power) "Analog supply voltage", 48 MODE (in) "Mode Select: H - Dual Bus, L - Interleaved. Internal pullup."

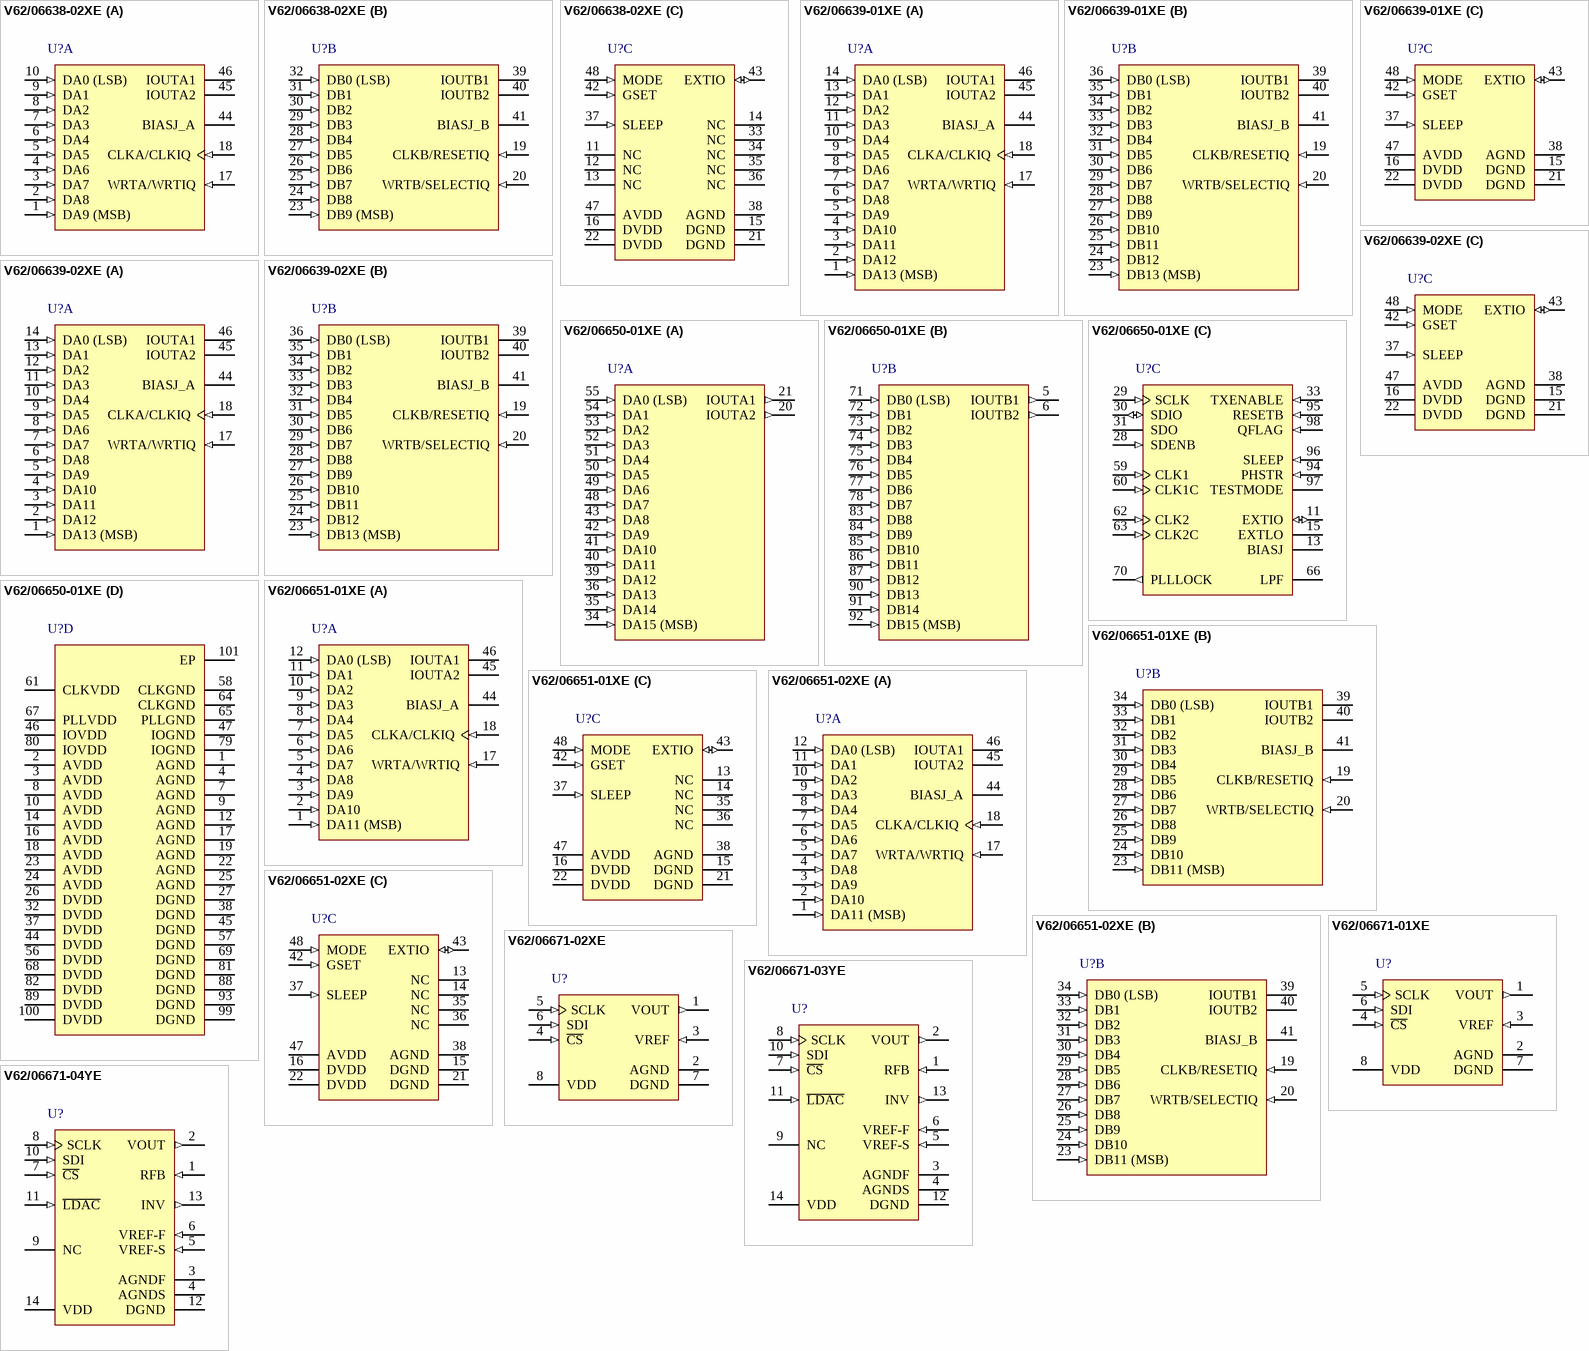
[diagram p72: symbols V62/06638-02XE to V62/06671-04YE]

## V62/06638-02XE
designator U?
Enhanced Product 10-Bit 275 MSPS Dual Digital to Analog Converter, -55 to 125 degC, 48-pin QFP (PFB48), Green (RoHS & no Sb/Br); Manufacturer: Texas Instruments; PartNumber: V62/06638-02XE; DAC Channels: 2; DNL(Max)(+/-LSB): 0.5; INL(Max)(+/-LSB): 1; Interface: Parallel CMOS; Power Consumption(Typ)(mW): 290; Resolution(Bits): 10; Settling Time(us): 0.02; SFDR(dB): 80; SNR(dB): 63; SubFamily: High Speed DAC (>10MSPS); DatasheetVersion: SGLS341C; PackageVersion: 4073176/B, 10/1996; PackageReference: PFB48; PackageDescription: 48-Pin Plastic Flat Pack, Body 7 x 7 mm, Pitch 0.5 mm; Supplier 1: Newark; Supplier Part Number 1: 79R8659; Supplier 2: Mouser; Supplier Part Number 2: 595-V62/06638-02XE; Eco-Plan: Green (RoHS & no Sb/Br); Mounting Technology: Surface Mount; Code_JEDEC: MS-026; ComponentLink1Description: Manufacturer URL; ComponentLink1URL: http://www.ti.com/; ComponentLink2Description: Datasheet; ComponentLink2URL: http://www.ti.com/general/docs/lit/getliterature.tsp?genericPartNumber=DAC5652-EP&fileType=pdf; ComponentLink3Description: Package Specification; ComponentLink3URL: http://www.ti.com/lit/ml/mtqf019a/mtqf019a.pdf
footprint TI-PFB48_N (QFP, 48-Leads, Body 7x7mm, Pitch 0.5mm, IPC Medium Density)
footprint TI-PFB48_L (QFP, 48-Leads, Body 7x7mm, Pitch 0.5mm, IPC High Density)
footprint TI-PFB48_M (QFP, 48-Leads, Body 7x7mm, Pitch 0.5mm, IPC Low Density)
part A pins: 1 DA9 (MSB) (in) "Data port A. DA9 is MSB and DA0 is LSB. Internal pulldown.", 2 DA8 (in) "Data port A. DA9 is MSB and DA0 is LSB. Internal pulldown.", 3 DA7 (in) "Data port A. DA9 is MSB and DA0 is LSB. Internal pulldown.", 4 DA6 (in) "Data port A. DA9 is MSB and DA0 is LSB. Internal pulldown.", 5 DA5 (in) "Data port A. DA9 is MSB and DA0 is LSB. Internal pulldown.", 6 DA4 (in) "Data port A. DA9 is MSB and DA0 is LSB. Internal pulldown.", 7 DA3 (in) "Data port A. DA9 is MSB and DA0 is LSB. Internal pulldown.", 8 DA2 (in) "Data port A. DA9 is MSB and DA0 is LSB. Internal pulldown.", 9 DA1 (in) "Data port A. DA9 is MSB and DA0 is LSB. Internal pulldown.", 10 DA0 (LSB) (in) "Data port A. DA9 is MSB and DA0 is LSB. Internal pulldown.", 17 WRTA/WRTIQ (in) "Input write signal for PORT A (WRTIQ in interleaving mode)", 18 CLKA/CLKIQ (in) "Clock input for DACA, CLKIQ in interleaved mode", 44 BIASJ_A "Full-scale output current bias for DACA", 45 IOUTA2 (hiz) "DACA complementary current output. Full-scale with all bits of DA low.", 46 IOUTA1 (hiz) "DACA current output. Full-scale with all bits of DA high."
part B pins: 19 CLKB/RESETIQ (in) "Clock input for DACB, RESETIQ in interleaved mode", 20 WRTB/SELECTIQ (in) "Input write signal for PORT B (SELECTIQ in interleaving mode)", 23 DB9 (MSB) (in) "Data port B. DB9 is MSB and DB0 is LSB. Internal pulldown.", 24 DB8 (in) "Data port B. DB9 is MSB and DB0 is LSB. Internal pulldown.", 25 DB7 (in) "Data port B. DB9 is MSB and DB0 is LSB. Internal pulldown.", 26 DB6 (in) "Data port B. DB9 is MSB and DB0 is LSB. Internal pulldown.", 27 DB5 (in) "Data port B. DB9 is MSB and DB0 is LSB. Internal pulldown.", 28 DB4 (in) "Data port B. DB9 is MSB and DB0 is LSB. Internal pulldown.", 29 DB3 (in) "Data port B. DB9 is MSB and DB0 is LSB. Internal pulldown.", 30 DB2 (in) "Data port B. DB9 is MSB and DB0 is LSB. Internal pulldown.", 31 DB1 (in) "Data port B. DB9 is MSB and DB0 is LSB. Internal pulldown.", 32 DB0 (LSB) (in) "Data port B. DB9 is MSB and DB0 is LSB. Internal pulldown.", 39 IOUTB1 (hiz) "DACB current output. Full-scale with all bits of DB high.", 40 IOUTB2 (hiz) "DACB complementary current output. Full-scale with all bits of DB low.", 41 BIASJ_B "Full-scale output current bias for DACB"
part C pins: 11 NC "Factory use only. Pins must be connected to DGND or left unconnected.", 12 NC "Factory use only. Pins must be connected to DGND or left unconnected.", 13 NC "Factory use only. Pins must be connected to DGND or left unconnected.", 14 NC "Factory use only. Pins must be connected to DGND or left unconnected.", 15 DGND (power) "Digital ground", 16 DVDD (power) "Digital supply voltage", 21 DGND (power) "Digital ground", 22 DVDD (power) "Digital supply voltage", 33 NC "Factory use only. Pins must be connected to DGND or left unconnected.", 34 NC "Factory use only. Pins must be connected to DGND or left unconnected.", 35 NC "Factory use only. Pins must be connected to DGND or left unconnected.", 36 NC "Factory use only. Pins must be connected to DGND or left unconnected.", 37 SLEEP (in) "Sleep function control input: H - DAC in power-down mode, L - DAC in operating mode. Internal pulldown.", 38 AGND (power) "Analog ground", 42 GSET (in) "Gain-setting mode: H - 1 resistor, L - 2 resistors. Internal pullup.", 43 EXTIO (io) "Internal reference output (bypass with 0.1 uF to AGND) or external reference input", 47 AVDD (power) "Analog supply voltage", 48 MODE (in) "Mode Select: H - Dual Bus, L - Interleaved. Internal pullup."

## V62/06639-01XE
designator U?
Enhanced Product Dual 14-Bit 200-MSPS DAC, -55 to 125 degC, 48-pin QFP (PFB48), Green (RoHS & no Sb/Br); Manufacturer: Texas Instruments; PartNumber: V62/06639-01XE; DAC Channels: 2; DNL(Max)(+/-LSB): 3; INL(Max)(+/-LSB): 4; Interface: Parallel CMOS; Power Consumption(Typ)(mW): 330; Resolution(Bits): 14; Settling Time(us): 0.02; SFDR(dB): 84; SNR(dB): 77; SubFamily: High Speed DAC (>10MSPS); DatasheetVersion: SGLS339A; PackageVersion: 4073176/B, 10/1996; PackageReference: PFB48; PackageDescription: 48-Pin Plastic Flat Pack, Body 7 x 7 mm, Pitch 0.5 mm; Supplier 1: Mouser; Supplier Part Number 1: 595-V62/06639-01XE; Eco-Plan: Green (RoHS & no Sb/Br); Mounting Technology: Surface Mount; Code_JEDEC: MS-026; ComponentLink1Description: Manufacturer URL; ComponentLink1URL: http://www.ti.com/; ComponentLink2Description: Datasheet; ComponentLink2URL: http://www.ti.com/general/docs/lit/getliterature.tsp?genericPartNumber=DAC5672-EP&fileType=pdf; ComponentLink3Description: Package Specification; ComponentLink3URL: http://www.ti.com/lit/ml/mtqf019a/mtqf019a.pdf
footprint TI-PFB48_N (QFP, 48-Leads, Body 7x7mm, Pitch 0.5mm, IPC Medium Density)
footprint TI-PFB48_L (QFP, 48-Leads, Body 7x7mm, Pitch 0.5mm, IPC High Density)
footprint TI-PFB48_M (QFP, 48-Leads, Body 7x7mm, Pitch 0.5mm, IPC Low Density)
part A pins: 1 DA13 (MSB) (in) "Data port A. DA13 is MSB and DA0 is LSB. Internal pulldown.", 2 DA12 (in) "Data port A. DA13 is MSB and DA0 is LSB. Internal pulldown.", 3 DA11 (in) "Data port A. DA13 is MSB and DA0 is LSB. Internal pulldown.", 4 DA10 (in) "Data port A. DA13 is MSB and DA0 is LSB. Internal pulldown.", 5 DA9 (in) "Data port A. DA13 is MSB and DA0 is LSB. Internal pulldown.", 6 DA8 (in) "Data port A. DA13 is MSB and DA0 is LSB. Internal pulldown.", 7 DA7 (in) "Data port A. DA13 is MSB and DA0 is LSB. Internal pulldown.", 8 DA6 (in) "Data port A. DA13 is MSB and DA0 is LSB. Internal pulldown.", 9 DA5 (in) "Data port A. DA13 is MSB and DA0 is LSB. Internal pulldown.", 10 DA4 (in) "Data port A. DA13 is MSB and DA0 is LSB. Internal pulldown.", 11 DA3 (in) "Data port A. DA13 is MSB and DA0 is LSB. Internal pulldown.", 12 DA2 (in) "Data port A. DA13 is MSB and DA0 is LSB. Internal pulldown.", 13 DA1 (in) "Data port A. DA13 is MSB and DA0 is LSB. Internal pulldown.", 14 DA0 (LSB) (in) "Data port A. DA13 is MSB and DA0 is LSB. Internal pulldown.", 17 WRTA/WRTIQ (in) "Input write signal for PORT A (WRTIQ in interleaving mode)", 18 CLKA/CLKIQ (in) "Clock input for DACA, CLKIQ in interleaved mode", 44 BIASJ_A "Full-scale output current bias for DACA", 45 IOUTA2 (hiz) "DACA complementary current output. Full-scale with all bits of DA low.", 46 IOUTA1 (hiz) "DACA current output. Full-scale with all bits of DA high."
part B pins: 19 CLKB/RESETIQ (in) "Clock input for DACB, RESETIQ in interleaved mode", 20 WRTB/SELECTIQ (in) "Input write signal for PORT B (SELECTIQ in interleaving mode)", 23 DB13 (MSB) (in) "Data port B. DB13 is MSB and DB0 is LSB. Internal pulldown.", 24 DB12 (in) "Data port B. DB13 is MSB and DB0 is LSB. Internal pulldown.", 25 DB11 (in) "Data port B. DB13 is MSB and DB0 is LSB. Internal pulldown.", 26 DB10 (in) "Data port B. DB13 is MSB and DB0 is LSB. Internal pulldown.", 27 DB9 (in) "Data port B. DB13 is MSB and DB0 is LSB. Internal pulldown.", 28 DB8 (in) "Data port B. DB13 is MSB and DB0 is LSB. Internal pulldown.", 29 DB7 (in) "Data port B. DB13 is MSB and DB0 is LSB. Internal pulldown.", 30 DB6 (in) "Data port B. DB13 is MSB and DB0 is LSB. Internal pulldown.", 31 DB5 (in) "Data port B. DB13 is MSB and DB0 is LSB. Internal pulldown.", 32 DB4 (in) "Data port B. DB13 is MSB and DB0 is LSB. Internal pulldown.", 33 DB3 (in) "Data port B. DB13 is MSB and DB0 is LSB. Internal pulldown.", 34 DB2 (in) "Data port B. DB13 is MSB and DB0 is LSB. Internal pulldown.", 35 DB1 (in) "Data port B. DB13 is MSB and DB0 is LSB. Internal pulldown.", 36 DB0 (LSB) (in) "Data port B. DB13 is MSB and DB0 is LSB. Internal pulldown.", 39 IOUTB1 (hiz) "DACB current output. Full-scale with all bits of DB high.", 40 IOUTB2 (hiz) "DACB complementary current output. Full-scale with all bits of DB low.", 41 BIASJ_B "Full-scale output current bias for DACB"
part C pins: 15 DGND (power) "Digital ground", 16 DVDD (power) "Digital supply voltage", 21 DGND (power) "Digital ground", 22 DVDD (power) "Digital supply voltage", 37 SLEEP (in) "Sleep function control input: H - DAC in power-down mode, L - DAC in operating mode. Internal pulldown.", 38 AGND (power) "Analog ground", 42 GSET (in) "Gain-setting mode: H - 1 resistor, L - 2 resistors. Internal pullup.", 43 EXTIO (io) "Internal reference output (bypass with 0.1 uF to AGND) or external reference input", 47 AVDD (power) "Analog supply voltage", 48 MODE (in) "Mode Select: H - Dual Bus, L - Interleaved. Internal pullup."